# EAGLE library part 171060302 (library WPME-VDRM)
MagI³C-VDRM Variable Step Down Regulator Module Characteristics Low conducted and radiated EMI (compliant to EN55022 class B / CISPR-22) TO263-7EP Leaded package for easy manufacturing and prototyping Simple layout Wide input voltage range for input transient capability Support ambient temperatures up to + 105 °C 2 solder cycles supported QFN Low profile package Simple application circuit (only 4 external components required) Optional multiple features (adj.frequency, adj.softstart, power good, sequencing, tracking, synchronization to external clock, adjustable undervoltage lockout) Wide input voltage range QFN41 type 3 solder cycles supported Applications Point-of-Load DC-DC applications from 24V, 18V, 15V, 12V, 9V, 5V industrial rails Industrial, Test & Measurement, Medical applications System power supplies I/O interface power supply DSPs, FPGAs, MCUs and MPUs supply High density distributed power systems Telecommunication applications <https://www.we-online.com/components/media/o33388v209%20Family-MagicVDRM-171010601-171021501.jpg> Details see: www.we-online.com/en/components/products/MAGIC-VDRM <www.we-online.com/catalog/MAGIC-VDRM/?utm_source=eagle_model&utm_medium=description_link&utm_campaign=eisos_eagle> Updated by Ella 2025-04-22 2025(C) Würth Elektronik
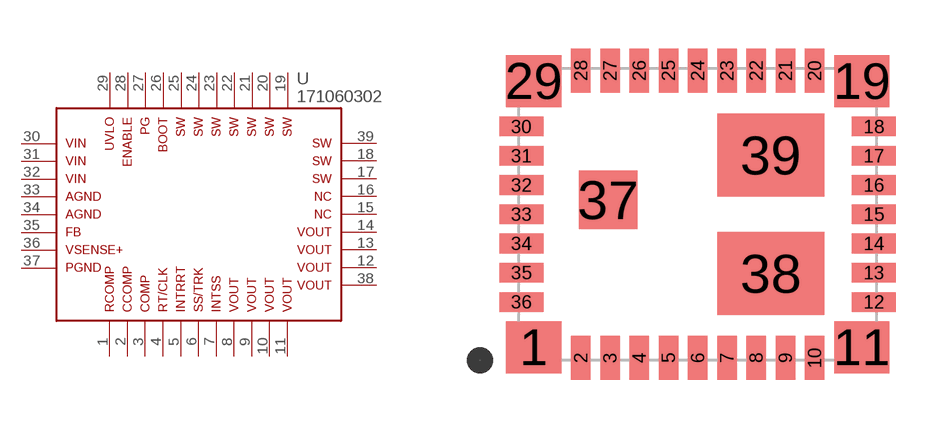
[diagram p2: symbol with the pads of WPME-VDRM_BQFN_1710X0302; footprint WPME-VDRM_BQFN_1710X0302]

Designator prefix U

## 171060302 (DATASHEET-URL: https://www.we-online.com/redexpert/spec/171060302?ae; HEIGHT: 2.85mm; I-OUTPUT: 6A; LENGTH: 11mm; MOUNT: SMT; PART-NUMBER: 171060302; SIZE: BQFN; V-INPUT: 2.95 - 6Vin; V-OUTPUT: 0.8 - 3.6Vout; VALUE: 2.95 - 6Vin, 0.8 - 3.6Vout, 6A; WIDTH: 9mm)  [WPME-VDRM_BQFN_1710X0302]
1  1  pas
2  2  pas
3  3  out
4  4  in
5  5  pas
6  6  in
7  7  pas
8  8  pwr
9  9  pwr
10  10  pwr
11  11  pwr
12  12  pwr
13  13  pwr
14  14  pwr
15  15  nc
16  16  nc
17  17  pwr
18  18  pwr
19  19  pwr
20  20  pwr
21  21  pwr
22  22  pwr
23  23  pwr
24  24  pwr
25  25  pwr
26  26  sup
27  27  out
28  28  in
29  29  in
30  30  pwr
31  31  pwr
32  32  pwr
33  33  sup
34  34  sup
35  35  in
36  36  in
37  37  pas
38  38  pwr
39  39  pwr

## Footprint WPME-VDRM_BQFN_1710X0302 (pad centres in mm)
smd 1.7 x 1.6: 1 -5.05,-4.1; 11 5.05,-4.1; 19 5.05,4.1; 29 -5.05,4.1
smd 0.6 x 1.35: 2 -3.6,-4.425; 3 -2.7,-4.425; 4 -1.8,-4.425; 5 -0.9,-4.425; 6 0,-4.425; 7 0.9,-4.425; 8 1.8,-4.425; 9 2.7,-4.425; 10 3.6,-4.425; 20 3.6,4.425; 21 2.7,4.425; 22 1.8,4.425; 23 0.9,4.425; 24 0,4.425; 25 -0.9,4.425; 26 -1.8,4.425; 27 -2.7,4.425; 28 -3.6,4.425
smd 1.35 x 0.6: 12 5.425,-2.7; 13 5.425,-1.8; 14 5.425,-0.9; 15 5.425,0; 16 5.425,0.9; 17 5.425,1.8; 18 5.425,2.7; 30 -5.425,2.7; 31 -5.425,1.8; 32 -5.425,0.9; 33 -5.425,0; 34 -5.425,-0.9; 35 -5.425,-1.8; 36 -5.425,-2.7
smd 1.8 x 1.8: 37 -2.76,0.45
smd 3.3 x 2.56: 38 2.25,-1.82
smd 3.3 x 2.55: 39 2.25,1.825